# Altium footprint library STS4LAD1BR3.PcbLib: 1 footprints
Each footprint in its own frame and in the unit in brackets; x right, y up, seen from the top. Pads: shape width x height; smd on the part's side, far side on the other; paste and mask are expansions set on the pad; w line width, h text height; cw(c..) or ccw(c..) is an arc to the next point about the centre after c.
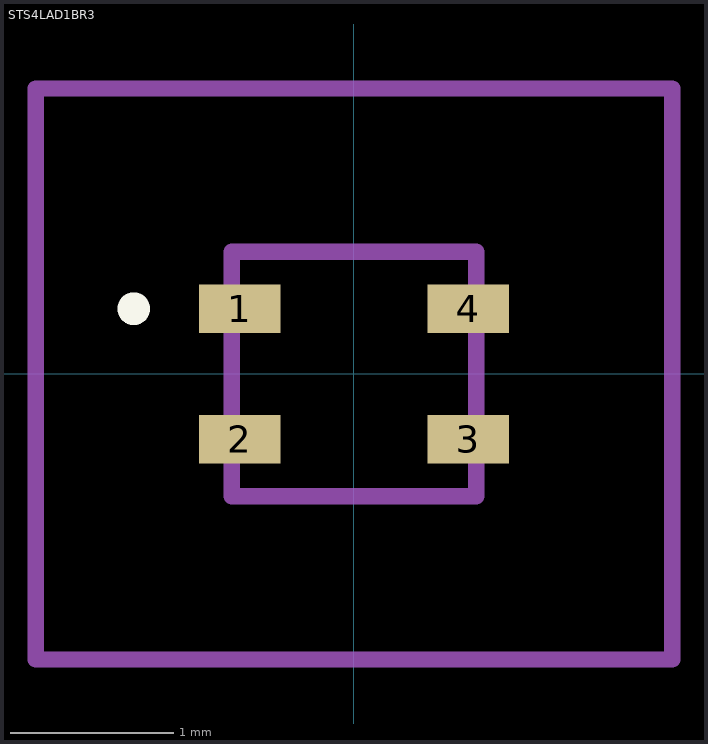
[diagram p0: the footprint, top view; thin cyan lines are the x and y axes]

## STS4LAD1BR3 [mm]
pads (4):
  rect 0.5x0.3 smd: 1(-0.7,0.4) 2(-0.7,-0.4) 3(0.7,-0.4) 4(0.7,0.4)
Top Overlay:
  lines w0.1: -1.4,0.4 -1.4,0.4 ; -1.4,0.4 ccw(c-1.35,0.4) -1.3,0.4 ; -1.4,0.4 cw(c-1.35,0.4) -1.3,0.4 ; -1.3,0.4 -1.3,0.4
Mechanical 15:
  lines w0.1: -0.75,-0.75 0.75,-0.75 0.75,0.75 -0.75,0.75 -0.75,-0.75
Mechanical 20:
  lines w0.1: -1.95,-1.75 1.95,-1.75 1.95,1.75 -1.95,1.75 -1.95,-1.75